# Altium schematic symbol library header.SchLib: 2 symbols
Pins are listed as number, name and electrical type; pins without a type are passive.

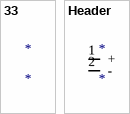
[diagram p0: symbols 33 to Header]

## 33
designator *

## Header
designator *
pins: 1 +, 2 -